# EAGLE library part EZG-?-316 (library con-lemo)
LEMO Connector Source: http://www.lemo.com/pdfs/catalog/ROW/German/unipole_multipole.pdf
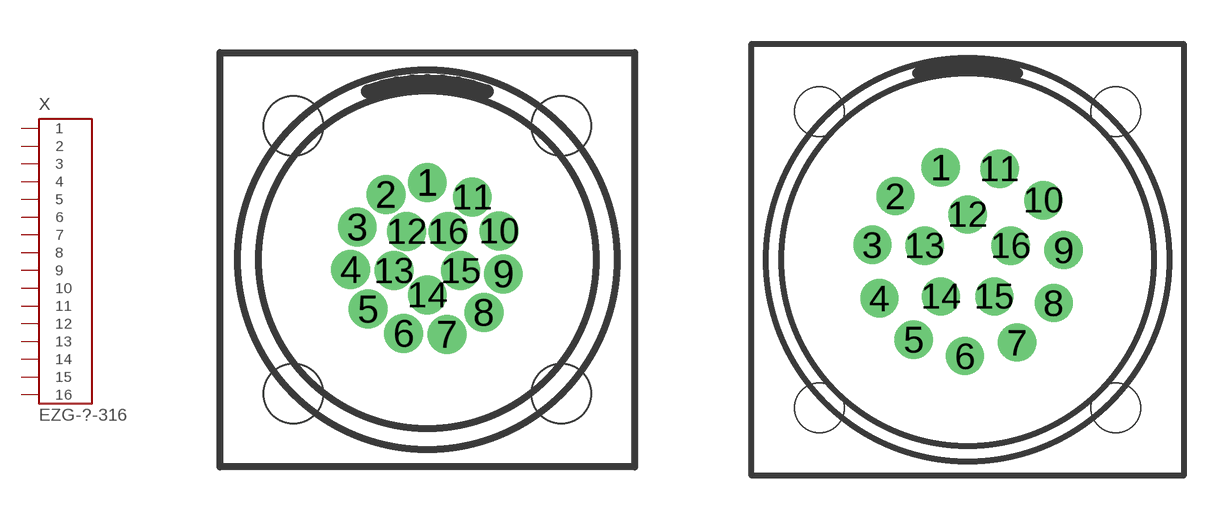
[diagram p10: symbol with the pads of EZG-1B-1K-316; footprints EZG-1B-1K-316, EZG-2B-2K-316]

Designator prefix X

## EZG-1B-316 (OC_FARNELL: unknown; OC_NEWARK: unknown)  [EZG-1B-1K-316]
1  1  pas
2  2  pas
3  3  pas
4  4  pas
5  5  pas
6  6  pas
7  7  pas
8  8  pas
9  9  pas
10  10  pas
11  11  pas
12  12  pas
13  13  pas
14  14  pas
15  15  pas
16  16  pas

## EZG-1K-316 (OC_FARNELL: unknown; OC_NEWARK: unknown)  [EZG-1B-1K-316]
Pads as for EZG-1B-1K-316

## EZG-2B-316 (OC_FARNELL: unknown; OC_NEWARK: unknown)  [EZG-2B-2K-316]
Pads as for EZG-1B-1K-316

## EZG-2K-316 (OC_FARNELL: unknown; OC_NEWARK: unknown)  [EZG-2B-2K-316]
Pads as for EZG-1B-1K-316

## Footprint EZG-1B-1K-316 (pad centres in mm)
LEMO Connector Source: http://www.lemo.com/pdfs/catalog/ROW/German/unipole_multipole.pdf
drill 0.6 pad 1: 1 0,2.2; 2 -1.18,1.857; 3 -1.992,0.934; 4 -2.182,-0.28; 5 -1.691,-1.407; 6 -0.672,-2.095; 7 0.556,-2.129; 8 1.611,-1.498; 9 2.163,-0.4; 10 2.04,0.823; 11 1.281,1.789; 12 -0.588,0.809; 13 -0.951,-0.309; 14 0,-1; 15 0.951,-0.309; 16 0.588,0.809
hole 1.7 at -3.81,3.81
hole 1.7 at 3.81,3.81
hole 1.7 at 3.81,-3.81
hole 1.7 at -3.81,-3.81

## Footprint EZG-2B-2K-316 (pad centres in mm)
LEMO Connector Source: http://www.lemo.com/pdfs/catalog/ROW/German/unipole_multipole.pdf
drill 0.8 pad 1.3: 1 -0.922,3.169; 2 -2.478,2.18; 3 -3.26,0.51; 4 -3.025,-1.318; 5 -1.846,-2.735; 6 -0.091,-3.299; 7 1.693,-2.833; 8 2.948,-1.483; 9 3.284,0.33; 10 2.594,2.04; 11 1.095,3.113; 12 0,1.55; 13 -1.474,0.479; 14 -0.911,-1.254; 15 0.911,-1.254; 16 1.474,0.479
hole 1.7 at -5.08,5.08
hole 1.7 at 5.08,5.08
hole 1.7 at 5.08,-5.08
hole 1.7 at -5.08,-5.08